# Altium integrated library Texas Instruments Power Management PWM Controller.IntLib: 1227 symbols (part 23 of 49)
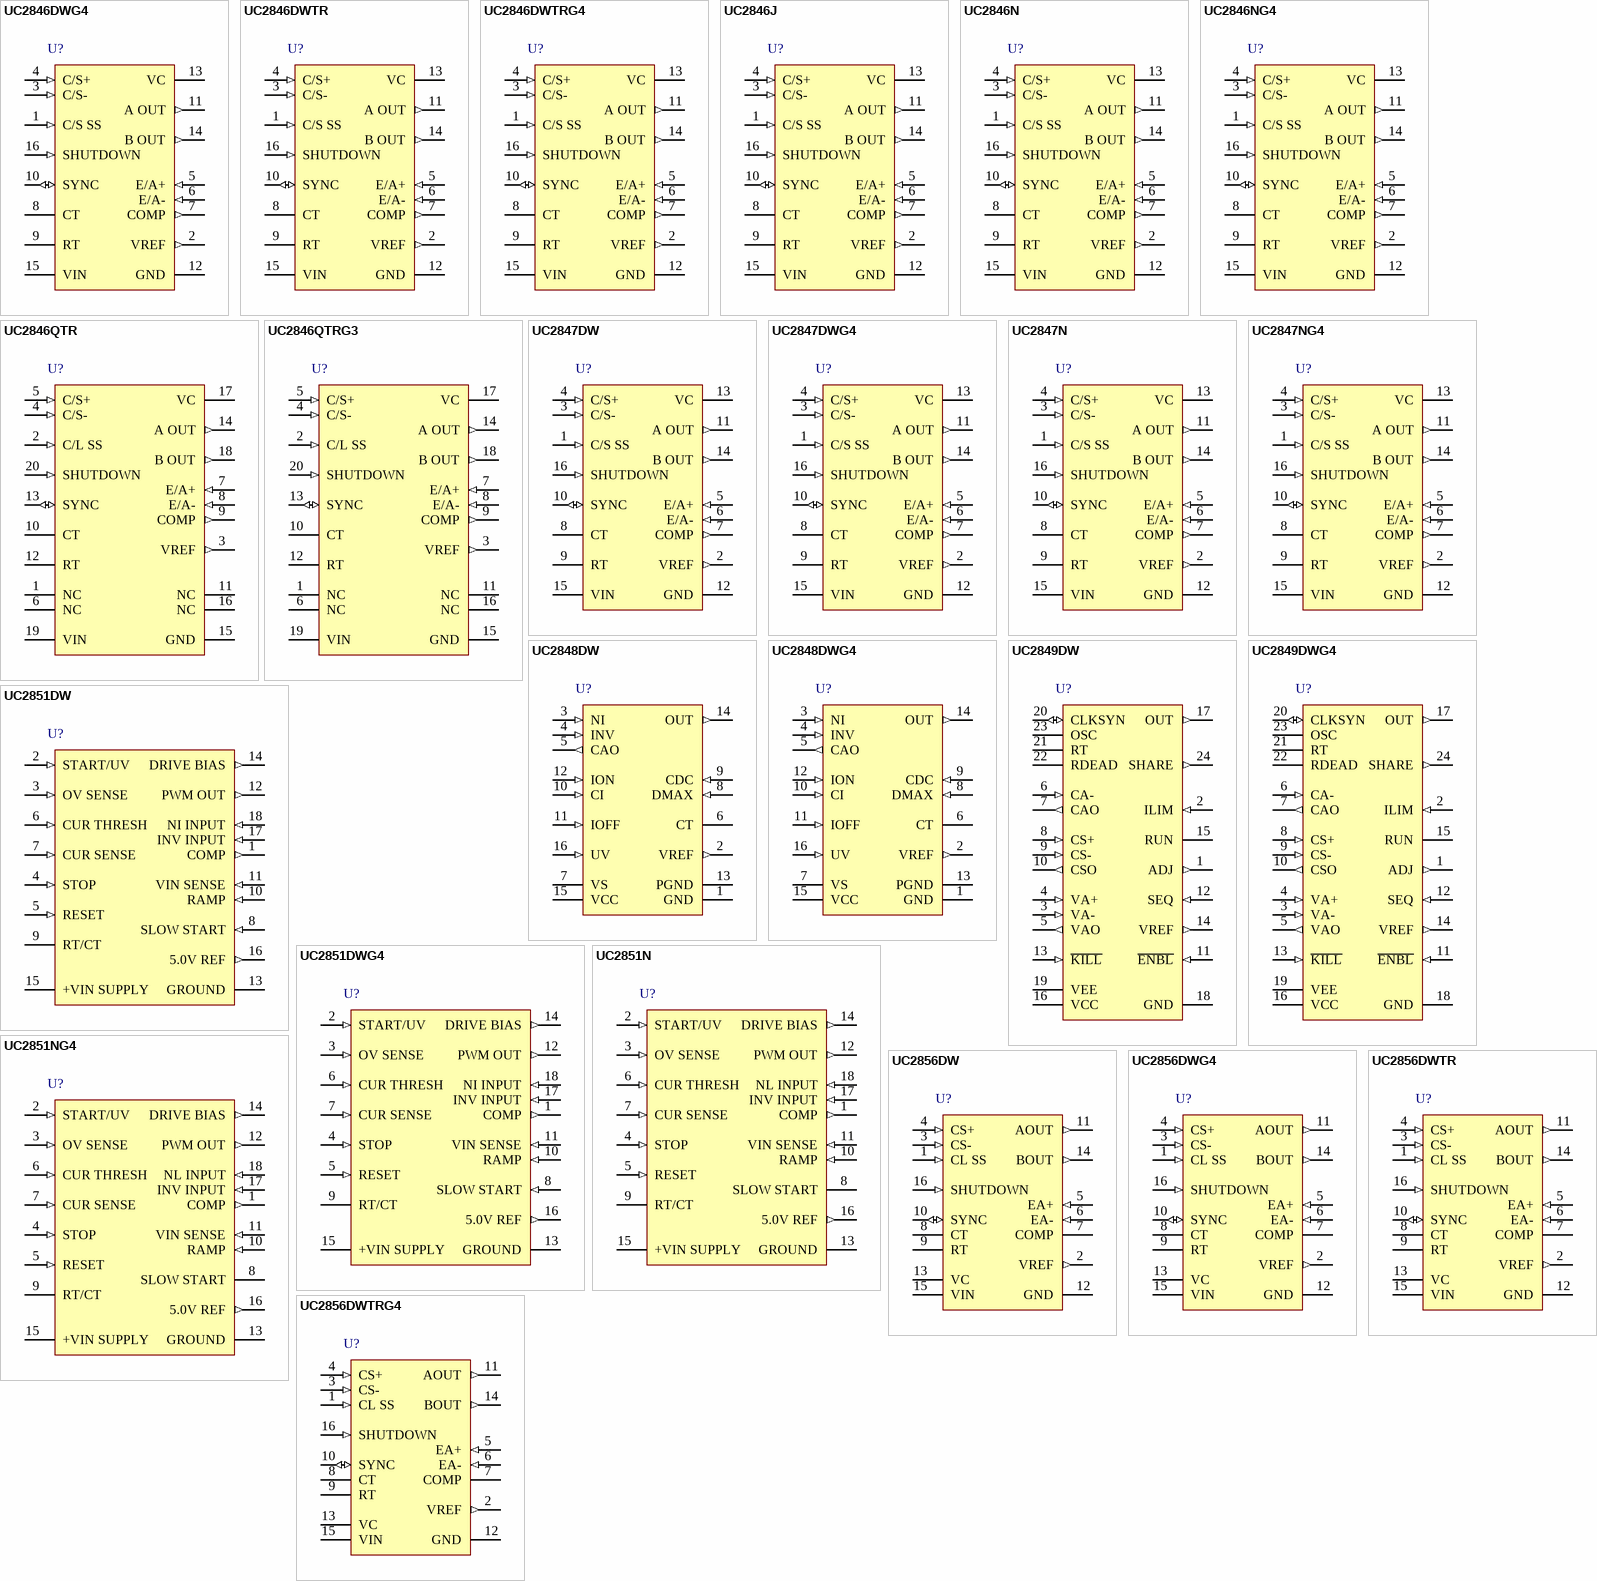
[diagram p65: symbols UC2846DWG4 to UC2856DWTRG4]

## UC2846DWTRG4
designator U?
PWM Controller with Current Control, 50 % Duty Cycle, -40 to +85 degC, 16-pin SOIC (DW), Green (RoHS & no Sb/Br); PartNumber: UC2846DWTRG4; Manufacturer: Texas Instruments; Duty Cycle(Max)(%): 50; Frequency(Max)(kHz): 450; Rating: Catalog; Regulated Outputs(#): 2; Topology: Boost, Flyback, Forward, Full-Bridge, Half-Bridge, Push-Pull; UVLO Thresholds On/Off(V): 7.7/6.95; DatasheetVersion: SLUS352B; PackageVersion: revG, Jan-2011; PackageReference: DW16; PackageDescription: 16-Pin Small Outline Integrated Circuit, 10.3 x 7.5 mm, Pitch 1.27 mm Pitch; Supplier 1: Digi-Key; Supplier Part Number 1: UC2846DWTRG4-ND; Supplier 2: Newark; Supplier Part Number 2: 85K1822; Supplier 3: Mouser; Supplier Part Number 3: 595-UC2846DWTRG4; Control Method: Current; Eco-Plan: Green (RoHS & no Sb/Br); SubFamily: PWM Controller; Mounting Technology: Surface Mount; Code_JEDEC: MS-013-AA; ComponentLink1Description: Datasheet; ComponentLink1URL: http://www.ti.com/general/docs/lit/getliterature.tsp?genericPartNumber=UC2846&fileType=pdf
footprint DW16_N (SOIC, 16-Leads, Body 10.3x7.5mm, Pitch 1.27mm, IPC Medium Density)
footprint DW16_L (SOIC, 16-Leads, Body 10.3x7.5mm, Pitch 1.27mm, IPC High Density)
footprint DW16_M (SOIC, 16-Leads, Body 10.3x7.5mm, Pitch 1.27mm, IPC Low Density)
pins: 1 C/S SS (in), 2 VREF (out), 3 C/S- (in), 4 C/S+ (in), 5 E/A+ (in), 6 E/A- (in), 7 COMP (out), 8 CT, 9 RT, 10 SYNC (io), 11 A OUT (out), 12 GND (power), 13 VC (power), 14 B OUT (out), 15 VIN (power), 16 SHUTDOWN (in)

## UC2846J
designator U?
PWM Controller with Current Control, 50 % Duty Cycle, -40 to +85 degC, 16-pin CDIP (J); PartNumber: UC2846J; Manufacturer: Texas Instruments; Duty Cycle(Max)(%): 50; Eco-Plan: TBD; Frequency(Max)(kHz): 450; Rating: Military; Regulated Outputs(#): 2; Topology: Boost, Flyback, Forward, Full-Bridge, Half-Bridge, Push-Pull; UVLO Thresholds On/Off(V): 7.7/6.95; DatasheetVersion: SLUS352B; PackageVersion: revF, Mar-2003; PackageReference: J16; PackageDescription: 16-Pin, Ceramic Dual In-Line Package, Row Spacing 7.62 mm, Pitch 2.54 mm; Control Method: Current; SubFamily: PWM Controller; Mounting Technology: Through Hole; ComponentLink1Description: Datasheet; ComponentLink1URL: http://www.ti.com/general/docs/lit/getliterature.tsp?genericPartNumber=UC2846M&fileType=pdf
footprint J16 (DIP, 16-Leads, Row Spacing 7.62mm, Pitch 2.54mm, Body 21.3x6.9mm)
pins: 1 C/S SS (in), 2 VREF (out), 3 C/S- (in), 4 C/S+ (in), 5 E/A+ (in), 6 E/A- (in), 7 COMP (out), 8 CT, 9 RT, 10 SYNC (io), 11 A OUT (out), 12 GND (power), 13 VC (power), 14 B OUT (out), 15 VIN (power), 16 SHUTDOWN (in)

## UC2846N
designator U?
PWM Controller with Current Control, 50 % Duty Cycle, -40 to +85 degC, 16-pin PDIP (N), Green (RoHS & no Sb/Br); PartNumber: UC2846N; Manufacturer: Texas Instruments; Duty Cycle(Max)(%): 50; Frequency(Max)(kHz): 450; Rating: Catalog; Regulated Outputs(#): 2; Topology: Boost, Flyback, Forward, Full-Bridge, Half-Bridge, Push-Pull; UVLO Thresholds On/Off(V): 7.7/6.95; DatasheetVersion: SLUS352B; PackageVersion: revE, Dec-2002; PackageReference: N16; PackageDescription: 16-Pin Plastic Dual-In-Line Package, Row Spacing 7.62 mm, Pitch 2.54 mm; Supplier 1: Digi-Key; Supplier Part Number 1: 296-11190-5-ND; Supplier 2: Farnell; Supplier Part Number 2: 1470535; Supplier 3: Newark; Supplier Part Number 3: 74K4003; Supplier 4: Mouser; Supplier Part Number 4: 595-UC2846N; Control Method: Current; Eco-Plan: Green (RoHS & no Sb/Br); SubFamily: PWM Controller; Mounting Technology: Through Hole; Code_JEDEC: MS-001*; ComponentLink1Description: Datasheet; ComponentLink1URL: http://www.ti.com/general/docs/lit/getliterature.tsp?genericPartNumber=UC2846&fileType=pdf
footprint N16 (DIP, 16-Leads, Row Spacing 7.62mm, Pitch 2.54mm, Body 19.3x6.4mm)
pins: 1 C/S SS (in), 2 VREF (out), 3 C/S- (in), 4 C/S+ (in), 5 E/A+ (in), 6 E/A- (in), 7 COMP (out), 8 CT, 9 RT, 10 SYNC (io), 11 A OUT (out), 12 GND (power), 13 VC (power), 14 B OUT (out), 15 VIN (power), 16 SHUTDOWN (in)

## UC2846NG4
designator U?
PWM Controller with Current Control, 50 % Duty Cycle, -40 to +85 degC, 16-pin PDIP (N), Green (RoHS & no Sb/Br); PartNumber: UC2846NG4; Manufacturer: Texas Instruments; Duty Cycle(Max)(%): 50; Frequency(Max)(kHz): 450; Rating: Catalog; Regulated Outputs(#): 2; Topology: Boost, Flyback, Forward, Full-Bridge, Half-Bridge, Push-Pull; UVLO Thresholds On/Off(V): 7.7/6.95; DatasheetVersion: SLUS352B; PackageVersion: revE, Dec-2002; PackageReference: N16; PackageDescription: 16-Pin Plastic Dual-In-Line Package, Row Spacing 7.62 mm, Pitch 2.54 mm; Supplier 1: Digi-Key; Supplier Part Number 1: UC2846NG4-ND; Supplier 2: Newark; Supplier Part Number 2: 66K4907; Supplier 3: Mouser; Supplier Part Number 3: 595-UC2846NG4; Control Method: Current; Eco-Plan: Green (RoHS & no Sb/Br); SubFamily: PWM Controller; Mounting Technology: Through Hole; Code_JEDEC: MS-001*; ComponentLink1Description: Datasheet; ComponentLink1URL: http://www.ti.com/general/docs/lit/getliterature.tsp?genericPartNumber=UC2846&fileType=pdf
footprint N16 (DIP, 16-Leads, Row Spacing 7.62mm, Pitch 2.54mm, Body 19.3x6.4mm)
pins: 1 C/S SS (in), 2 VREF (out), 3 C/S- (in), 4 C/S+ (in), 5 E/A+ (in), 6 E/A- (in), 7 COMP (out), 8 CT, 9 RT, 10 SYNC (io), 11 A OUT (out), 12 GND (power), 13 VC (power), 14 B OUT (out), 15 VIN (power), 16 SHUTDOWN (in)

## UC2846QTR
designator U?
PWM Controller with Current Control, 50 % Duty Cycle, -40 to +85 degC, 20-pin PLCC (FN), Green (RoHS & no Sb/Br); PartNumber: UC2846QTR; Manufacturer: Texas Instruments; Duty Cycle(Max)(%): 50; Frequency(Max)(kHz): 450; Rating: Catalog; Regulated Outputs(#): 2; Topology: Boost, Flyback, Forward, Full-Bridge, Half-Bridge, Push-Pull; UVLO Thresholds On/Off(V): 7.7/6.95; DatasheetVersion: SLUS352B; PackageVersion: revB, Mar-1995; PackageReference: FN20; PackageDescription: 20-Pin Plastic Leaded Chip Carrier, 1.27 mm Pitch; Supplier 1: Digi-Key; Supplier Part Number 1: UC2846QTR-ND; Supplier 2: Newark; Supplier Part Number 2: 77C2995; Supplier 3: Mouser; Supplier Part Number 3: 595-UC2846QTR; Control Method: Current; Eco-Plan: Green (RoHS & no Sb/Br); SubFamily: PWM Controller; Mounting Technology: Surface Mount; Code_JEDEC: MS-018; ComponentLink1Description: Datasheet; ComponentLink1URL: http://www.ti.com/general/docs/lit/getliterature.tsp?genericPartNumber=UC2846&fileType=pdf
footprint FN20_N (Leaded Chip Carrier, 20-Leads, Body 9x9mm, Pitch 1.27mm, IPC Medium Density)
footprint FN20_L (Leaded Chip Carrier, 20-Leads, Body 9x9mm, Pitch 1.27mm, IPC High Density)
footprint FN20_M (Leaded Chip Carrier, 20-Leads, Body 9x9mm, Pitch 1.27mm, IPC Low Density)
pins: 1 NC, 2 C/L SS (in), 3 VREF (out), 4 C/S- (in), 5 C/S+ (in), 6 NC, 7 E/A+ (in), 8 E/A- (in), 9 COMP (out), 10 CT, 11 NC, 12 RT, 13 SYNC (io), 14 A OUT (out), 15 GND (power), 16 NC, 17 VC (power), 18 B OUT (out), 19 VIN (power), 20 SHUTDOWN (in)

## UC2846QTRG3
designator U?
PWM Controller with Current Control, 50 % Duty Cycle, -40 to +85 degC, 20-pin PLCC (FN), Green (RoHS & no Sb/Br); PartNumber: UC2846QTRG3; Manufacturer: Texas Instruments; Duty Cycle(Max)(%): 50; Frequency(Max)(kHz): 450; Rating: Catalog; Regulated Outputs(#): 2; Topology: Boost, Flyback, Forward, Full-Bridge, Half-Bridge, Push-Pull; UVLO Thresholds On/Off(V): 7.7/6.95; DatasheetVersion: SLUS352B; PackageVersion: revB, Mar-1995; PackageReference: FN20; PackageDescription: 20-Pin Plastic Leaded Chip Carrier, 1.27 mm Pitch; Supplier 1: Digi-Key; Supplier Part Number 1: UC2846QTRG3-ND; Supplier 2: Newark; Supplier Part Number 2: 81K4516; Supplier 3: Mouser; Supplier Part Number 3: 595-UC2846QTRG3; Control Method: Current; Eco-Plan: Green (RoHS & no Sb/Br); SubFamily: PWM Controller; Mounting Technology: Surface Mount; Code_JEDEC: MS-018; ComponentLink1Description: Datasheet; ComponentLink1URL: http://www.ti.com/general/docs/lit/getliterature.tsp?genericPartNumber=UC2846&fileType=pdf
footprint FN20_N (Leaded Chip Carrier, 20-Leads, Body 9x9mm, Pitch 1.27mm, IPC Medium Density)
footprint FN20_L (Leaded Chip Carrier, 20-Leads, Body 9x9mm, Pitch 1.27mm, IPC High Density)
footprint FN20_M (Leaded Chip Carrier, 20-Leads, Body 9x9mm, Pitch 1.27mm, IPC Low Density)
pins: 1 NC, 2 C/L SS (in), 3 VREF (out), 4 C/S- (in), 5 C/S+ (in), 6 NC, 7 E/A+ (in), 8 E/A- (in), 9 COMP (out), 10 CT, 11 NC, 12 RT, 13 SYNC (io), 14 A OUT (out), 15 GND (power), 16 NC, 17 VC (power), 18 B OUT (out), 19 VIN (power), 20 SHUTDOWN (in)

## UC2847DW
designator U?
PWM Controller with Current Control, 50 % Duty Cycle, -40 to +85 degC, 16-pin SOIC (DW), Green (RoHS & no Sb/Br); PartNumber: UC2847DW; Manufacturer: Texas Instruments; Duty Cycle(Max)(%): 50; Frequency(Max)(kHz): 450; Rating: Catalog; Regulated Outputs(#): 2; Topology: Boost, Flyback, Forward, Full-Bridge, Half-Bridge, Push-Pull; UVLO Thresholds On/Off(V): 7.7/6.95; DatasheetVersion: SLUS352B; PackageVersion: revG, Jan-2011; PackageReference: DW16; PackageDescription: 16-Pin Small Outline Integrated Circuit, 10.3 x 7.5 mm, Pitch 1.27 mm Pitch; Supplier 1: Digi-Key; Supplier Part Number 1: UC2847DW-ND; Supplier 2: Newark; Supplier Part Number 2: 77C2996; Supplier 3: Mouser; Supplier Part Number 3: 595-UC2847DW; Control Method: Current; Eco-Plan: Green (RoHS & no Sb/Br); SubFamily: PWM Controller; Mounting Technology: Surface Mount; Code_JEDEC: MS-013-AA; ComponentLink1Description: Datasheet; ComponentLink1URL: http://www.ti.com/general/docs/lit/getliterature.tsp?genericPartNumber=UC2847&fileType=pdf
footprint DW16_N (SOIC, 16-Leads, Body 10.3x7.5mm, Pitch 1.27mm, IPC Medium Density)
footprint DW16_L (SOIC, 16-Leads, Body 10.3x7.5mm, Pitch 1.27mm, IPC High Density)
footprint DW16_M (SOIC, 16-Leads, Body 10.3x7.5mm, Pitch 1.27mm, IPC Low Density)
pins: 1 C/S SS (in), 2 VREF (out), 3 C/S- (in), 4 C/S+ (in), 5 E/A+ (in), 6 E/A- (in), 7 COMP (out), 8 CT, 9 RT, 10 SYNC (io), 11 A OUT (out), 12 GND (power), 13 VC (power), 14 B OUT (out), 15 VIN (power), 16 SHUTDOWN (in)

## UC2847DWG4
designator U?
PWM Controller with Current Control, 50 % Duty Cycle, -40 to +85 degC, 16-pin SOIC (DW), Green (RoHS & no Sb/Br); PartNumber: UC2847DWG4; Manufacturer: Texas Instruments; Duty Cycle(Max)(%): 50; Frequency(Max)(kHz): 450; Rating: Catalog; Regulated Outputs(#): 2; Topology: Boost, Flyback, Forward, Full-Bridge, Half-Bridge, Push-Pull; UVLO Thresholds On/Off(V): 7.7/6.95; DatasheetVersion: SLUS352B; PackageVersion: revG, Jan-2011; PackageReference: DW16; PackageDescription: 16-Pin Small Outline Integrated Circuit, 10.3 x 7.5 mm, Pitch 1.27 mm Pitch; Supplier 1: Digi-Key; Supplier Part Number 1: UC2847DWG4-ND; Supplier 2: Newark; Supplier Part Number 2: 66K4908; Supplier 3: Mouser; Supplier Part Number 3: 595-UC2847DWG4; Control Method: Current; Eco-Plan: Green (RoHS & no Sb/Br); SubFamily: PWM Controller; Mounting Technology: Surface Mount; Code_JEDEC: MS-013-AA; ComponentLink1Description: Datasheet; ComponentLink1URL: http://www.ti.com/general/docs/lit/getliterature.tsp?genericPartNumber=UC2847&fileType=pdf
footprint DW16_N (SOIC, 16-Leads, Body 10.3x7.5mm, Pitch 1.27mm, IPC Medium Density)
footprint DW16_L (SOIC, 16-Leads, Body 10.3x7.5mm, Pitch 1.27mm, IPC High Density)
footprint DW16_M (SOIC, 16-Leads, Body 10.3x7.5mm, Pitch 1.27mm, IPC Low Density)
pins: 1 C/S SS (in), 2 VREF (out), 3 C/S- (in), 4 C/S+ (in), 5 E/A+ (in), 6 E/A- (in), 7 COMP (out), 8 CT, 9 RT, 10 SYNC (io), 11 A OUT (out), 12 GND (power), 13 VC (power), 14 B OUT (out), 15 VIN (power), 16 SHUTDOWN (in)

## UC2847N
designator U?
PWM Controller with Current Control, 50 % Duty Cycle, -40 to +85 degC, 16-pin PDIP (N), Green (RoHS & no Sb/Br); PartNumber: UC2847N; Manufacturer: Texas Instruments; Duty Cycle(Max)(%): 50; Frequency(Max)(kHz): 450; Rating: Catalog; Regulated Outputs(#): 2; Topology: Boost, Flyback, Forward, Full-Bridge, Half-Bridge, Push-Pull; UVLO Thresholds On/Off(V): 7.7/6.95; DatasheetVersion: SLUS352B; PackageVersion: revE, Dec-2002; PackageReference: N16; PackageDescription: 16-Pin Plastic Dual-In-Line Package, Row Spacing 7.62 mm, Pitch 2.54 mm; Supplier 1: Digi-Key; Supplier Part Number 1: UC2847N-ND; Supplier 2: Newark; Supplier Part Number 2: 77C2998; Supplier 3: Mouser; Supplier Part Number 3: 595-UC2847N; Control Method: Current; Eco-Plan: Green (RoHS & no Sb/Br); SubFamily: PWM Controller; Mounting Technology: Through Hole; Code_JEDEC: MS-001*; ComponentLink1Description: Datasheet; ComponentLink1URL: http://www.ti.com/general/docs/lit/getliterature.tsp?genericPartNumber=UC2847&fileType=pdf
footprint N16 (DIP, 16-Leads, Row Spacing 7.62mm, Pitch 2.54mm, Body 19.3x6.4mm)
pins: 1 C/S SS (in), 2 VREF (out), 3 C/S- (in), 4 C/S+ (in), 5 E/A+ (in), 6 E/A- (in), 7 COMP (out), 8 CT, 9 RT, 10 SYNC (io), 11 A OUT (out), 12 GND (power), 13 VC (power), 14 B OUT (out), 15 VIN (power), 16 SHUTDOWN (in)

## UC2847NG4
designator U?
PWM Controller with Current Control, 50 % Duty Cycle, -40 to +85 degC, 16-pin PDIP (N), Green (RoHS & no Sb/Br); PartNumber: UC2847NG4; Manufacturer: Texas Instruments; Duty Cycle(Max)(%): 50; Frequency(Max)(kHz): 450; Rating: Catalog; Regulated Outputs(#): 2; Topology: Boost, Flyback, Forward, Full-Bridge, Half-Bridge, Push-Pull; UVLO Thresholds On/Off(V): 7.7/6.95; DatasheetVersion: SLUS352B; PackageVersion: revE, Dec-2002; PackageReference: N16; PackageDescription: 16-Pin Plastic Dual-In-Line Package, Row Spacing 7.62 mm, Pitch 2.54 mm; Supplier 1: Digi-Key; Supplier Part Number 1: UC2847NG4-ND; Supplier 2: Newark; Supplier Part Number 2: 80K3532; Supplier 3: Mouser; Supplier Part Number 3: 595-UC2847NG4; Control Method: Current; Eco-Plan: Green (RoHS & no Sb/Br); SubFamily: PWM Controller; Mounting Technology: Through Hole; Code_JEDEC: MS-001*; ComponentLink1Description: Datasheet; ComponentLink1URL: http://www.ti.com/general/docs/lit/getliterature.tsp?genericPartNumber=UC2847&fileType=pdf
footprint N16 (DIP, 16-Leads, Row Spacing 7.62mm, Pitch 2.54mm, Body 19.3x6.4mm)
pins: 1 C/S SS (in), 2 VREF (out), 3 C/S- (in), 4 C/S+ (in), 5 E/A+ (in), 6 E/A- (in), 7 COMP (out), 8 CT, 9 RT, 10 SYNC (io), 11 A OUT (out), 12 GND (power), 13 VC (power), 14 B OUT (out), 15 VIN (power), 16 SHUTDOWN (in)

## UC2848DW
designator U?
Average Current Mode PWM Controller, 100 % Duty Cycle, -40 to +85 degC, 16-pin SOIC (DW), Green (RoHS & no Sb/Br); PartNumber: UC2848DW; Manufacturer: Texas Instruments; Duty Cycle(Max)(%): 100; Frequency(Max)(kHz): 450; Rating: Military; Regulated Outputs(#): 1; Topology: Boost, Buck, Flyback, Forward; UVLO Thresholds On/Off(V): 13/10; DatasheetVersion: SLUS225A; PackageVersion: revG, Jan-2011; PackageReference: DW16; PackageDescription: 16-Pin Small Outline Integrated Circuit, 10.3 x 7.5 mm, Pitch 1.27 mm Pitch; Supplier 1: Digi-Key; Supplier Part Number 1: UC2848DW-ND; Supplier 2: Newark; Supplier Part Number 2: 77C2999; Supplier 3: Mouser; Supplier Part Number 3: 595-UC2848DW; Control Method: Current; Eco-Plan: Green (RoHS & no Sb/Br); SubFamily: PWM Controller; Mounting Technology: Surface Mount; Code_JEDEC: MS-013-AA; ComponentLink1Description: Datasheet; ComponentLink1URL: http://www.ti.com/general/docs/lit/getliterature.tsp?genericPartNumber=UC2848&fileType=pdf
footprint DW16_N (SOIC, 16-Leads, Body 10.3x7.5mm, Pitch 1.27mm, IPC Medium Density)
footprint DW16_L (SOIC, 16-Leads, Body 10.3x7.5mm, Pitch 1.27mm, IPC High Density)
footprint DW16_M (SOIC, 16-Leads, Body 10.3x7.5mm, Pitch 1.27mm, IPC Low Density)
pins: 1 GND (power), 2 VREF (out), 3 NI (in), 4 INV (in), 5 CAO (out), 6 CT, 7 VS (power), 8 DMAX (in), 9 CDC (in), 10 CI (in), 11 IOFF (in), 12 ION (in), 13 PGND (power), 14 OUT (out), 15 VCC (power), 16 UV (in)

## UC2848DWG4
designator U?
Average Current Mode PWM Controller, 100 % Duty Cycle, -40 to +85 degC, 16-pin SOIC (DW), Green (RoHS & no Sb/Br); PartNumber: UC2848DWG4; Manufacturer: Texas Instruments; Duty Cycle(Max)(%): 100; Frequency(Max)(kHz): 450; Rating: Military; Regulated Outputs(#): 1; Topology: Boost, Buck, Flyback, Forward; UVLO Thresholds On/Off(V): 13/10; DatasheetVersion: SLUS225A; PackageVersion: revG, Jan-2011; PackageReference: DW16; PackageDescription: 16-Pin Small Outline Integrated Circuit, 10.3 x 7.5 mm, Pitch 1.27 mm Pitch; Supplier 1: Digi-Key; Supplier Part Number 1: UC2848DWG4-ND; Supplier 2: Newark; Supplier Part Number 2: 63K6687; Supplier 3: Mouser; Supplier Part Number 3: 595-UC2848DWG4; Control Method: Current; Eco-Plan: Green (RoHS & no Sb/Br); SubFamily: PWM Controller; Mounting Technology: Surface Mount; Code_JEDEC: MS-013-AA; ComponentLink1Description: Datasheet; ComponentLink1URL: http://www.ti.com/general/docs/lit/getliterature.tsp?genericPartNumber=UC2848&fileType=pdf
footprint DW16_N (SOIC, 16-Leads, Body 10.3x7.5mm, Pitch 1.27mm, IPC Medium Density)
footprint DW16_L (SOIC, 16-Leads, Body 10.3x7.5mm, Pitch 1.27mm, IPC High Density)
footprint DW16_M (SOIC, 16-Leads, Body 10.3x7.5mm, Pitch 1.27mm, IPC Low Density)
pins: 1 GND (power), 2 VREF (out), 3 NI (in), 4 INV (in), 5 CAO (out), 6 CT, 7 VS (power), 8 DMAX (in), 9 CDC (in), 10 CI (in), 11 IOFF (in), 12 ION (in), 13 PGND (power), 14 OUT (out), 15 VCC (power), 16 UV (in)

## UC2849DW
designator U?
Secondary Side Average Current Mode Controller, 85 % Duty Cycle, -40 to +85 degC, 24-pin SOIC (DW), Green (RoHS & no Sb/Br); PartNumber: UC2849DW; Manufacturer: Texas Instruments; Duty Cycle(Max)(%): 85; Frequency(Max)(kHz): 1000; Rating: Catalog; Regulated Outputs(#): 1; SubFamily: PWM Controller; DatasheetVersion: SLUS360C; PackageVersion: revG, Jan-2011; PackageReference: DW24; PackageDescription: 24-Pin Plastic Small Outline Integrated Circuit, 15.4 x 7.5 mm, Pitch 1.27 mm Pitch; Supplier 1: Digi-Key; Supplier Part Number 1: 296-2494-5-ND; Supplier 2: Newark; Supplier Part Number 2: 77C3002; Supplier 3: Mouser; Supplier Part Number 3: 595-UC2849DW; Eco-Plan: Green (RoHS & no Sb/Br); Mounting Technology: Surface Mount; Code_JEDEC: MS-013AD; ComponentLink1Description: Datasheet; ComponentLink1URL: http://www.ti.com/general/docs/lit/getliterature.tsp?genericPartNumber=UC2849&fileType=pdf
footprint DW24_N (SOIC, 24-Leads, Body 15.4x7.5mm, Pitch 1.27mm, IPC Medium Density)
footprint DW24_L (SOIC, 24-Leads, Body 15.4x7.5mm, Pitch 1.27mm, IPC High Density)
footprint DW24_M (SOIC, 24-Leads, Body 15.4x7.5mm, Pitch 1.27mm, IPC Low Density)
pins: 1 ADJ (out) "The output of the transconductance (gm = -1 ms) amplifier adjusts the control voltage to maintain equal current sharing. The chip sensing the highest output current will have its output clamped to 1 V. A resistor divider (See Datasheet)", 2 ILIM (in) "A voltage on this pin programs the voltage error amplifier’s Voh clamp. The voltage error amplifier output represents the average output current. The Voh clamp consequently limits the output current. If ILIM is tied to VREF, (See Datasheet)", 3 VA- (in) "The inverting input to the voltage error amplifier.", 4 VA+ (in) "The non-inverting input to the voltage error amplifier.", 5 VAO (out) "The output of the voltage error amplifier. Its Voh is clamped with the ILIM pin.", 6 CA- (in) "The inverting input to the current error amplifier. This amplifier needs a capacitor between CA- and CAO to set its dominant pole.", 7 CAO (out) "The output of the current error amplifier which is internally clamped to 4 V. It is internally connected to the inverting input of the PWM comparator.", 8 CS+ (in) "The non-inverting input to the current sense amplifier. This amplifier is not internally compensated so the user must compensate externally to attain the highest GBW for the application.", 9 CS- (in) "The inverting input to the current sense amplifier. This amplifier is not internally compensated so the user must compensate externally to attain the highest GBW for the application.", 10 CSO (out) "The output of the current sense amplifier which is internally clamped to 4 V.", 11 ~{ENBL} (in) "The active low input with a 2.5-V threshold enables the output to switch. SEQ and RUN are driven low when E\N\B\L\ is above its 2.5-V threshold.", 12 SEQ (in) "The sequence pin allows the sequencing of startup for multiple units. A resistor between VREF and SEQ and a capacitor between SEQ and GND creates a unique RC rise time for each unit which sequences the output startup.", 13 ~{KILL} (in) "The active low input with a 3.0-V threshold stops the output from switching. Once this function is activated RUN must be cycled low by driving K\I\L\L\ above 3.0 V and either resetting the power to the chip (VCC) or (See Datasheet)", 14 VREF (out) "The reference voltage equal to 5.0 V.", 15 RUN (oc) "This is an open collector logic output that signifies when the chip is operational. RUN is pulled high to VREF through an external resistor when VCC is greater than 8.4 V, VREF is greater than 4.65 V, SEQ is greater than 2.5 (See Datasheet)", 16 VCC (power) "The input voltage of the chip. The chip is operational between 8.4 V and 20 V.", 17 OUT (out) "The output of the PWM driver. It has an upper clamp of 8.5 V. The peak current sink and source are 250 mA. All UVLO, SEQ, E\N\B\L\, and K\I\L\L\ logic either enable or disable the output driver.", 18 GND (power) "The signal ground used for the voltage sense amplifier, current sense amplifier, current error amplifier, voltage reference, 2X amplifier, and share amplifier. The output sink transistor is wired directly to this pin.", 19 VEE (power) "The negative supply to the chip which powers the lower voltage rail for all amplifiers. The chip is operational if VEE is connected to GND or if GND is floating. When voltage is applied externally to VEE, GND becomes a (See Datasheet)", 20 CLKSYN (io) "The clock and synchronization pin for the oscillator. This is a bidirectional pin that can be used to synchronize several chips to the fastest oscillator. Its input synchronization threshold is 1.4 V. The CLKSYN voltage is 3.(See Datasheet)", 21 RT "This pin programs the charge time of the oscillator ramp.", 22 RDEAD "The pin that programs the maximum duty cycle by connecting a resistor between it and OSC. The maximum duty cycle is decreased by increasing this resistor value which increases the discharge time. The dead time, the time when (See Datasheet)", 23 OSC "The oscillator ramp pin which has a capacitor (CT) to ground and a resistor (RDEAD) to the RDEAD pin programs its maximum duty cycle by programming a minimum dead time. The ramp oscillates between 1.2 V to 3.4 V when an (See Datasheet)", 24 SHARE (out) "The nearly dc voltage representing the average output current. This pin is wired directly to all SHARE pins and is the load share bus."

## UC2849DWG4
designator U?
Secondary Side Average Current Mode Controller, 85 % Duty Cycle, -40 to +85 degC, 24-pin SOIC (DW), Green (RoHS & no Sb/Br); PartNumber: UC2849DWG4; Manufacturer: Texas Instruments; Duty Cycle(Max)(%): 85; Frequency(Max)(kHz): 1000; Rating: Catalog; Regulated Outputs(#): 1; SubFamily: PWM Controller; DatasheetVersion: SLUS360C; PackageVersion: revG, Jan-2011; PackageReference: DW24; PackageDescription: 24-Pin Plastic Small Outline Integrated Circuit, 15.4 x 7.5 mm, Pitch 1.27 mm Pitch; Supplier 1: Digi-Key; Supplier Part Number 1: UC2849DWG4-ND; Supplier 2: Newark; Supplier Part Number 2: 58K7108; Supplier 3: Mouser; Supplier Part Number 3: 595-UC2849DWG4; Eco-Plan: Green (RoHS & no Sb/Br); Mounting Technology: Surface Mount; Code_JEDEC: MS-013AD; ComponentLink1Description: Datasheet; ComponentLink1URL: http://www.ti.com/general/docs/lit/getliterature.tsp?genericPartNumber=UC2849&fileType=pdf
footprint DW24_N (SOIC, 24-Leads, Body 15.4x7.5mm, Pitch 1.27mm, IPC Medium Density)
footprint DW24_L (SOIC, 24-Leads, Body 15.4x7.5mm, Pitch 1.27mm, IPC High Density)
footprint DW24_M (SOIC, 24-Leads, Body 15.4x7.5mm, Pitch 1.27mm, IPC Low Density)
pins: 1 ADJ (out) "The output of the transconductance (gm = -1 ms) amplifier adjusts the control voltage to maintain equal current sharing. The chip sensing the highest output current will have its output clamped to 1 V. A resistor divider (See Datasheet)", 2 ILIM (in) "A voltage on this pin programs the voltage error amplifier’s Voh clamp. The voltage error amplifier output represents the average output current. The Voh clamp consequently limits the output current. If ILIM is tied to VREF, (See Datasheet)", 3 VA- (in) "The inverting input to the voltage error amplifier.", 4 VA+ (in) "The non-inverting input to the voltage error amplifier.", 5 VAO (out) "The output of the voltage error amplifier. Its Voh is clamped with the ILIM pin.", 6 CA- (in) "The inverting input to the current error amplifier. This amplifier needs a capacitor between CA- and CAO to set its dominant pole.", 7 CAO (out) "The output of the current error amplifier which is internally clamped to 4 V. It is internally connected to the inverting input of the PWM comparator.", 8 CS+ (in) "The non-inverting input to the current sense amplifier. This amplifier is not internally compensated so the user must compensate externally to attain the highest GBW for the application.", 9 CS- (in) "The inverting input to the current sense amplifier. This amplifier is not internally compensated so the user must compensate externally to attain the highest GBW for the application.", 10 CSO (out) "The output of the current sense amplifier which is internally clamped to 4 V.", 11 ~{ENBL} (in) "The active low input with a 2.5-V threshold enables the output to switch. SEQ and RUN are driven low when E\N\B\L\ is above its 2.5-V threshold.", 12 SEQ (in) "The sequence pin allows the sequencing of startup for multiple units. A resistor between VREF and SEQ and a capacitor between SEQ and GND creates a unique RC rise time for each unit which sequences the output startup.", 13 ~{KILL} (in) "The active low input with a 3.0-V threshold stops the output from switching. Once this function is activated RUN must be cycled low by driving K\I\L\L\ above 3.0 V and either resetting the power to the chip (VCC) or (See Datasheet)", 14 VREF (out) "The reference voltage equal to 5.0 V.", 15 RUN (oc) "This is an open collector logic output that signifies when the chip is operational. RUN is pulled high to VREF through an external resistor when VCC is greater than 8.4 V, VREF is greater than 4.65 V, SEQ is greater than 2.5 (See Datasheet)", 16 VCC (power) "The input voltage of the chip. The chip is operational between 8.4 V and 20 V.", 17 OUT (out) "The output of the PWM driver. It has an upper clamp of 8.5 V. The peak current sink and source are 250 mA. All UVLO, SEQ, E\N\B\L\, and K\I\L\L\ logic either enable or disable the output driver.", 18 GND (power) "The signal ground used for the voltage sense amplifier, current sense amplifier, current error amplifier, voltage reference, 2X amplifier, and share amplifier. The output sink transistor is wired directly to this pin.", 19 VEE (power) "The negative supply to the chip which powers the lower voltage rail for all amplifiers. The chip is operational if VEE is connected to GND or if GND is floating. When voltage is applied externally to VEE, GND becomes a (See Datasheet)", 20 CLKSYN (io) "The clock and synchronization pin for the oscillator. This is a bidirectional pin that can be used to synchronize several chips to the fastest oscillator. Its input synchronization threshold is 1.4 V. The CLKSYN voltage is 3.(See Datasheet)", 21 RT "This pin programs the charge time of the oscillator ramp.", 22 RDEAD "The pin that programs the maximum duty cycle by connecting a resistor between it and OSC. The maximum duty cycle is decreased by increasing this resistor value which increases the discharge time. The dead time, the time when (See Datasheet)", 23 OSC "The oscillator ramp pin which has a capacitor (CT) to ground and a resistor (RDEAD) to the RDEAD pin programs its maximum duty cycle by programming a minimum dead time. The ramp oscillates between 1.2 V to 3.4 V when an (See Datasheet)", 24 SHARE (out) "The nearly dc voltage representing the average output current. This pin is wired directly to all SHARE pins and is the load share bus."

## UC2851DW
designator U?
Programmable, Off-Line, PWM Controller with Current Control, 50 % Duty Cycle, -40 to +85 degC, 18-pin SOIC (DW), Green (RoHS & no Sb/Br); PartNumber: UC2851DW; Manufacturer: Texas Instruments; Duty Cycle(Max)(%): 50; Frequency(Max)(kHz): 450; Rating: Catalog; Regulated Outputs(#): 1; Topology: Boost, Buck, Flyback, Forward; DatasheetVersion: SLUS226; PackageVersion: revG, Jan-2011; PackageReference: DW18; PackageDescription: 18-Pin Plastic Small Outline Integrated Circuit, 11.6 x 7.5 mm, Pitch 1.27 mm Pitch; Supplier 1: Digi-Key; Supplier Part Number 1: UC2851DW-ND; Supplier 2: Newark; Supplier Part Number 2: 77C3008; Supplier 3: Mouser; Supplier Part Number 3: 595-UC2851DW; Control Method: Current; Eco-Plan: Green (RoHS & no Sb/Br); SubFamily: PWM Controller; UVLO Thresholds On/Off(V): 8/7.8; Mounting Technology: Surface Mount; Code_JEDEC: MS-013-AB; ComponentLink1Description: Datasheet; ComponentLink1URL: http://www.ti.com/general/docs/lit/getliterature.tsp?genericPartNumber=UC2851&fileType=pdf
footprint DW18_N (SOIC, 18-Leads, Body 11.6x7.5mm, Pitch 1.27mm, IPC Medium Density)
footprint DW18_L (SOIC, 18-Leads, Body 11.6x7.5mm, Pitch 1.27mm, IPC High Density)
footprint DW18_M (SOIC, 18-Leads, Body 11.6x7.5mm, Pitch 1.27mm, IPC Low Density)
pins: 1 COMP (out), 2 START/UV (in), 3 OV SENSE (in), 4 STOP (in), 5 RESET (in), 6 CUR THRESH (in), 7 CUR SENSE (in), 8 SLOW START (in), 9 RT/CT, 10 RAMP (in), 11 VIN SENSE (in), 12 PWM OUT (out), 13 GROUND (power), 14 DRIVE BIAS (out), 15 +VIN SUPPLY (power), 16 5.0V REF (out), 17 INV INPUT (in), 18 NI INPUT (in)

## UC2851DWG4
designator U?
Programmable, Off-Line, PWM Controller with Current Control, 50 % Duty Cycle, -40 to +85 degC, 18-pin SOIC (DW), Green (RoHS & no Sb/Br); PartNumber: UC2851DWG4; Manufacturer: Texas Instruments; Duty Cycle(Max)(%): 50; Frequency(Max)(kHz): 450; Rating: Catalog; Regulated Outputs(#): 1; Topology: Boost, Buck, Flyback, Forward; DatasheetVersion: SLUS226; PackageVersion: revG, Jan-2011; PackageReference: DW18; PackageDescription: 18-Pin Plastic Small Outline Integrated Circuit, 11.6 x 7.5 mm, Pitch 1.27 mm Pitch; Supplier 1: Digi-Key; Supplier Part Number 1: UC2851DWG4-ND; Supplier 2: Newark; Supplier Part Number 2: 61K1994; Supplier 3: Mouser; Supplier Part Number 3: 595-UC2851DWG4; Control Method: Current; Eco-Plan: Green (RoHS & no Sb/Br); SubFamily: PWM Controller; UVLO Thresholds On/Off(V): 8/7.8; Mounting Technology: Surface Mount; Code_JEDEC: MS-013-AB; ComponentLink1Description: Datasheet; ComponentLink1URL: http://www.ti.com/general/docs/lit/getliterature.tsp?genericPartNumber=UC2851&fileType=pdf
footprint DW18_N (SOIC, 18-Leads, Body 11.6x7.5mm, Pitch 1.27mm, IPC Medium Density)
footprint DW18_L (SOIC, 18-Leads, Body 11.6x7.5mm, Pitch 1.27mm, IPC High Density)
footprint DW18_M (SOIC, 18-Leads, Body 11.6x7.5mm, Pitch 1.27mm, IPC Low Density)
pins: 1 COMP (out), 2 START/UV (in), 3 OV SENSE (in), 4 STOP (in), 5 RESET (in), 6 CUR THRESH (in), 7 CUR SENSE (in), 8 SLOW START (in), 9 RT/CT, 10 RAMP (in), 11 VIN SENSE (in), 12 PWM OUT (out), 13 GROUND (power), 14 DRIVE BIAS (out), 15 +VIN SUPPLY (power), 16 5.0V REF (out), 17 INV INPUT (in), 18 NI INPUT (in)

## UC2851N
designator U?
Programmable, Off-Line, PWM Controller with Current Control, 50 % Duty Cycle, -40 to +85 degC, 18-pin PDIP (N), Green (RoHS & no Sb/Br); PartNumber: UC2851N; Manufacturer: Texas Instruments; Duty Cycle(Max)(%): 50; Frequency(Max)(kHz): 450; Rating: Catalog; Regulated Outputs(#): 1; Topology: Boost, Buck, Flyback, Forward; DatasheetVersion: SLUS226; PackageVersion: revE, Dec-2002; PackageReference: N18; PackageDescription: 18-Pin Plastic Dual-In-Line Package, Row Spacing 7.62 mm, Pitch 2.54 mm; Supplier 1: Digi-Key; Supplier Part Number 1: 296-11192-5-ND; Supplier 2: Newark; Supplier Part Number 2: 77C3010; Supplier 3: Mouser; Supplier Part Number 3: 595-UC2851N; Control Method: Current; Eco-Plan: Green (RoHS & no Sb/Br); SubFamily: PWM Controller; UVLO Thresholds On/Off(V): 8/7.8; Mounting Technology: Through Hole; Code_JEDEC: MS-001-AC*; ComponentLink1Description: Datasheet; ComponentLink1URL: http://www.ti.com/general/docs/lit/getliterature.tsp?genericPartNumber=UC2851&fileType=pdf
footprint N18 (DIP, 18-Leads, Row Spacing 7.62mm, Pitch 2.54mm, Body 22.5x6.4mm)
pins: 1 COMP (out), 2 START/UV (in), 3 OV SENSE (in), 4 STOP (in), 5 RESET (in), 6 CUR THRESH (in), 7 CUR SENSE (in), 8 SLOW START, 9 RT/CT, 10 RAMP (in), 11 VIN SENSE (in), 12 PWM OUT (out), 13 GROUND (power), 14 DRIVE BIAS (out), 15 +VIN SUPPLY (power), 16 5.0V REF (out), 17 INV INPUT (in), 18 NL INPUT (in)

## UC2851NG4
designator U?
Programmable, Off-Line, PWM Controller with Current Control, 50 % Duty Cycle, -40 to +85 degC, 18-pin PDIP (N), Green (RoHS & no Sb/Br); PartNumber: UC2851NG4; Manufacturer: Texas Instruments; Duty Cycle(Max)(%): 50; Frequency(Max)(kHz): 450; Rating: Catalog; Regulated Outputs(#): 1; Topology: Boost, Buck, Flyback, Forward; DatasheetVersion: SLUS226; PackageVersion: revE, Dec-2002; PackageReference: N18; PackageDescription: 18-Pin Plastic Dual-In-Line Package, Row Spacing 7.62 mm, Pitch 2.54 mm; Supplier 1: Digi-Key; Supplier Part Number 1: UC2851NG4-ND; Supplier 2: Newark; Supplier Part Number 2: 70K5980; Supplier 3: Mouser; Supplier Part Number 3: 595-UC2851NG4; Control Method: Current; Eco-Plan: Green (RoHS & no Sb/Br); SubFamily: PWM Controller; UVLO Thresholds On/Off(V): 8/7.8; Mounting Technology: Through Hole; Code_JEDEC: MS-001-AC*; ComponentLink1Description: Datasheet; ComponentLink1URL: http://www.ti.com/general/docs/lit/getliterature.tsp?genericPartNumber=UC2851&fileType=pdf
footprint N18 (DIP, 18-Leads, Row Spacing 7.62mm, Pitch 2.54mm, Body 22.5x6.4mm)
pins: 1 COMP (out), 2 START/UV (in), 3 OV SENSE (in), 4 STOP (in), 5 RESET (in), 6 CUR THRESH (in), 7 CUR SENSE (in), 8 SLOW START, 9 RT/CT, 10 RAMP (in), 11 VIN SENSE (in), 12 PWM OUT (out), 13 GROUND (power), 14 DRIVE BIAS (out), 15 +VIN SUPPLY (power), 16 5.0V REF (out), 17 INV INPUT (in), 18 NL INPUT (in)

## UC2856DW
designator U?
Improved PWM Controller with Current Control, 50 % Duty Cycle, -40 to +85 degC, 16-pin SOIC (DW), Green (RoHS & no Sb/Br); PartNumber: UC2856DW; Manufacturer: Texas Instruments; Duty Cycle(Max)(%): 50; Frequency(Max)(kHz): 1000; Rating: Catalog; Regulated Outputs(#): 2; Topology: Boost, Flyback, Forward, Full-Bridge, Half-Bridge, Push-Pull; DatasheetVersion: SLUS227A; PackageVersion: revG, Jan-2011; PackageReference: DW16; PackageDescription: 16-Pin Small Outline Integrated Circuit, 10.3 x 7.5 mm, Pitch 1.27 mm Pitch; Supplier 1: Digi-Key; Supplier Part Number 1: 296-11197-5-ND; Supplier 2: Newark; Supplier Part Number 2: 77C3035; Supplier 3: Mouser; Supplier Part Number 3: 595-UC2856DW; Control Method: Current; Eco-Plan: Green (RoHS & no Sb/Br); SubFamily: PWM Controller; UVLO Thresholds On/Off(V): 7.7/7; Mounting Technology: Surface Mount; Code_JEDEC: MS-013-AA; ComponentLink1Description: Datasheet; ComponentLink1URL: http://www.ti.com/general/docs/lit/getliterature.tsp?genericPartNumber=UC2856&fileType=pdf
footprint DW16_N (SOIC, 16-Leads, Body 10.3x7.5mm, Pitch 1.27mm, IPC Medium Density)
footprint DW16_L (SOIC, 16-Leads, Body 10.3x7.5mm, Pitch 1.27mm, IPC High Density)
footprint DW16_M (SOIC, 16-Leads, Body 10.3x7.5mm, Pitch 1.27mm, IPC Low Density)
pins: 1 CL SS (in), 2 VREF (out), 3 CS- (in), 4 CS+ (in), 5 EA+ (in), 6 EA- (in), 7 COMP, 8 CT, 9 RT, 10 SYNC (io), 11 AOUT (out), 12 GND (power), 13 VC (power), 14 BOUT (out), 15 VIN (power), 16 SHUTDOWN (in)

## UC2856DWG4
designator U?
Improved PWM Controller with Current Control, 50 % Duty Cycle, -40 to +85 degC, 16-pin SOIC (DW), Green (RoHS & no Sb/Br); PartNumber: UC2856DWG4; Manufacturer: Texas Instruments; Duty Cycle(Max)(%): 50; Frequency(Max)(kHz): 1000; Rating: Catalog; Regulated Outputs(#): 2; Topology: Boost, Flyback, Forward, Full-Bridge, Half-Bridge, Push-Pull; DatasheetVersion: SLUS227A; PackageVersion: revG, Jan-2011; PackageReference: DW16; PackageDescription: 16-Pin Small Outline Integrated Circuit, 10.3 x 7.5 mm, Pitch 1.27 mm Pitch; Supplier 1: Digi-Key; Supplier Part Number 1: UC2856DWG4-ND; Supplier 2: Newark; Supplier Part Number 2: 63K6693; Supplier 3: Mouser; Supplier Part Number 3: 595-UC2856DWG4; Control Method: Current; Eco-Plan: Green (RoHS & no Sb/Br); SubFamily: PWM Controller; UVLO Thresholds On/Off(V): 7.7/7; Mounting Technology: Surface Mount; Code_JEDEC: MS-013-AA; ComponentLink1Description: Datasheet; ComponentLink1URL: http://www.ti.com/general/docs/lit/getliterature.tsp?genericPartNumber=UC2856&fileType=pdf
footprint DW16_N (SOIC, 16-Leads, Body 10.3x7.5mm, Pitch 1.27mm, IPC Medium Density)
footprint DW16_L (SOIC, 16-Leads, Body 10.3x7.5mm, Pitch 1.27mm, IPC High Density)
footprint DW16_M (SOIC, 16-Leads, Body 10.3x7.5mm, Pitch 1.27mm, IPC Low Density)
pins: 1 CL SS (in), 2 VREF (out), 3 CS- (in), 4 CS+ (in), 5 EA+ (in), 6 EA- (in), 7 COMP, 8 CT, 9 RT, 10 SYNC (io), 11 AOUT (out), 12 GND (power), 13 VC (power), 14 BOUT (out), 15 VIN (power), 16 SHUTDOWN (in)

## UC2856DWTR
designator U?
Improved PWM Controller with Current Control, 50 % Duty Cycle, -40 to +85 degC, 16-pin SOIC (DW), Green (RoHS & no Sb/Br); PartNumber: UC2856DWTR; Manufacturer: Texas Instruments; Duty Cycle(Max)(%): 50; Frequency(Max)(kHz): 1000; Rating: Catalog; Regulated Outputs(#): 2; Topology: Boost, Flyback, Forward, Full-Bridge, Half-Bridge, Push-Pull; DatasheetVersion: SLUS227A; PackageVersion: revG, Jan-2011; PackageReference: DW16; PackageDescription: 16-Pin Small Outline Integrated Circuit, 10.3 x 7.5 mm, Pitch 1.27 mm Pitch; Supplier 1: Digi-Key; Supplier Part Number 1: UC2856DWTR-ND; Supplier 2: Newark; Supplier Part Number 2: 77C3036; Supplier 3: Mouser; Supplier Part Number 3: 595-UC2856DWTR; Control Method: Current; Eco-Plan: Green (RoHS & no Sb/Br); SubFamily: PWM Controller; UVLO Thresholds On/Off(V): 7.7/7; Mounting Technology: Surface Mount; Code_JEDEC: MS-013-AA; ComponentLink1Description: Datasheet; ComponentLink1URL: http://www.ti.com/general/docs/lit/getliterature.tsp?genericPartNumber=UC2856&fileType=pdf
footprint DW16_N (SOIC, 16-Leads, Body 10.3x7.5mm, Pitch 1.27mm, IPC Medium Density)
footprint DW16_L (SOIC, 16-Leads, Body 10.3x7.5mm, Pitch 1.27mm, IPC High Density)
footprint DW16_M (SOIC, 16-Leads, Body 10.3x7.5mm, Pitch 1.27mm, IPC Low Density)
pins: 1 CL SS (in), 2 VREF (out), 3 CS- (in), 4 CS+ (in), 5 EA+ (in), 6 EA- (in), 7 COMP, 8 CT, 9 RT, 10 SYNC (io), 11 AOUT (out), 12 GND (power), 13 VC (power), 14 BOUT (out), 15 VIN (power), 16 SHUTDOWN (in)

## UC2856DWTRG4
designator U?
Improved PWM Controller with Current Control, 50 % Duty Cycle, -40 to +85 degC, 16-pin SOIC (DW), Green (RoHS & no Sb/Br); PartNumber: UC2856DWTRG4; Manufacturer: Texas Instruments; Duty Cycle(Max)(%): 50; Frequency(Max)(kHz): 1000; Rating: Catalog; Regulated Outputs(#): 2; Topology: Boost, Flyback, Forward, Full-Bridge, Half-Bridge, Push-Pull; DatasheetVersion: SLUS227A; PackageVersion: revG, Jan-2011; PackageReference: DW16; PackageDescription: 16-Pin Small Outline Integrated Circuit, 10.3 x 7.5 mm, Pitch 1.27 mm Pitch; Supplier 1: Digi-Key; Supplier Part Number 1: UC2856DWTRG4-ND; Supplier 2: Newark; Supplier Part Number 2: 63K6694; Supplier 3: Mouser; Supplier Part Number 3: 595-UC2856DWTRG4; Control Method: Current; Eco-Plan: Green (RoHS & no Sb/Br); SubFamily: PWM Controller; UVLO Thresholds On/Off(V): 7.7/7; Mounting Technology: Surface Mount; Code_JEDEC: MS-013-AA; ComponentLink1Description: Datasheet; ComponentLink1URL: http://www.ti.com/general/docs/lit/getliterature.tsp?genericPartNumber=UC2856&fileType=pdf
footprint DW16_N (SOIC, 16-Leads, Body 10.3x7.5mm, Pitch 1.27mm, IPC Medium Density)
footprint DW16_L (SOIC, 16-Leads, Body 10.3x7.5mm, Pitch 1.27mm, IPC High Density)
footprint DW16_M (SOIC, 16-Leads, Body 10.3x7.5mm, Pitch 1.27mm, IPC Low Density)
pins: 1 CL SS (in), 2 VREF (out), 3 CS- (in), 4 CS+ (in), 5 EA+ (in), 6 EA- (in), 7 COMP, 8 CT, 9 RT, 10 SYNC (io), 11 AOUT (out), 12 GND (power), 13 VC (power), 14 BOUT (out), 15 VIN (power), 16 SHUTDOWN (in)

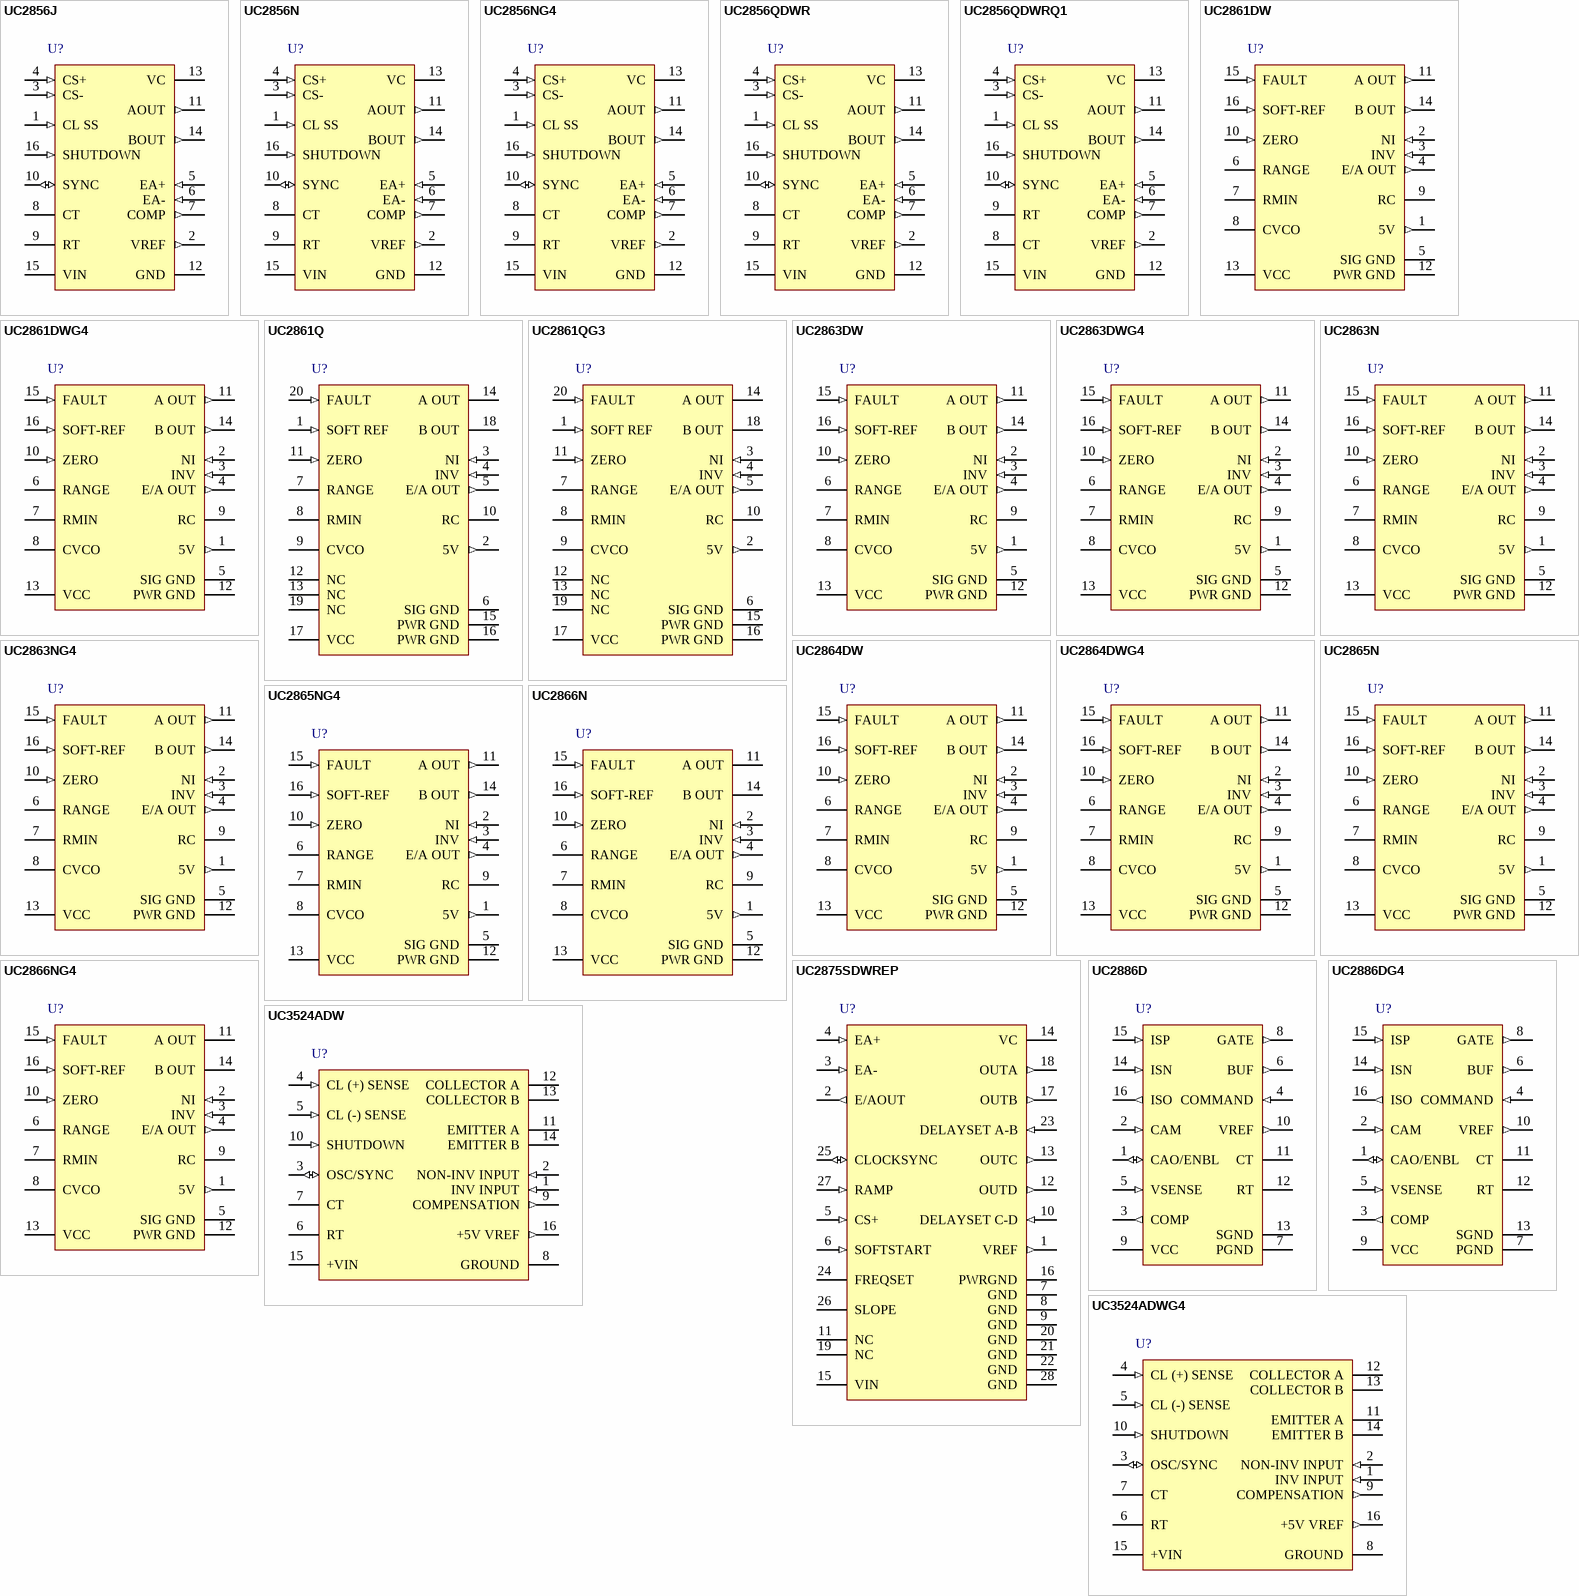
[diagram p25: symbols UC2856J to UC3524ADWG4]

## UC2856J
designator U?
Improved PWM Controller with Current Control, 50 % Duty Cycle, -40 to +85 degC, 16-pin CDIP (J); PartNumber: UC2856J; Manufacturer: Texas Instruments; Duty Cycle(Max)(%): 50; Eco-Plan: TBD; Frequency(Max)(kHz): 1000; Rating: Military; Regulated Outputs(#): 2; Topology: Boost, Flyback, Forward, Full-Bridge, Half-Bridge, Push-Pull; DatasheetVersion: SLUS227A; PackageVersion: revF, Mar-2003; PackageReference: J16; PackageDescription: 16-Pin, Ceramic Dual In-Line Package, Row Spacing 7.62 mm, Pitch 2.54 mm; Control Method: Current; SubFamily: PWM Controller; UVLO Thresholds On/Off(V): 7.7/7; Mounting Technology: Through Hole; ComponentLink1Description: Datasheet; ComponentLink1URL: http://www.ti.com/general/docs/lit/getliterature.tsp?genericPartNumber=UC2856M&fileType=pdf
footprint J16 (DIP, 16-Leads, Row Spacing 7.62mm, Pitch 2.54mm, Body 21.3x6.9mm)
pins: 1 CL SS (in), 2 VREF (out), 3 CS- (in), 4 CS+ (in), 5 EA+ (in), 6 EA- (in), 7 COMP (out), 8 CT, 9 RT, 10 SYNC (io), 11 AOUT (out), 12 GND (power), 13 VC (power), 14 BOUT (out), 15 VIN (power), 16 SHUTDOWN (in)

## UC2856N
designator U?
Improved PWM Controller with Current Control, 50 % Duty Cycle, -40 to +85 degC, 16-pin PDIP (N), Green (RoHS & no Sb/Br); PartNumber: UC2856N; Manufacturer: Texas Instruments; Duty Cycle(Max)(%): 50; Frequency(Max)(kHz): 1000; Rating: Catalog; Regulated Outputs(#): 2; Topology: Boost, Flyback, Forward, Full-Bridge, Half-Bridge, Push-Pull; DatasheetVersion: SLUS227A; PackageVersion: revE, Dec-2002; PackageReference: N16; PackageDescription: 16-Pin Plastic Dual-In-Line Package, Row Spacing 7.62 mm, Pitch 2.54 mm; Supplier 1: Digi-Key; Supplier Part Number 1: 296-11198-5-ND; Supplier 2: Newark; Supplier Part Number 2: 77C3037; Supplier 3: Mouser; Supplier Part Number 3: 595-UC2856N; Control Method: Current; Eco-Plan: Green (RoHS & no Sb/Br); SubFamily: PWM Controller; UVLO Thresholds On/Off(V): 7.7/7; Mounting Technology: Through Hole; Code_JEDEC: MS-001*; ComponentLink1Description: Datasheet; ComponentLink1URL: http://www.ti.com/general/docs/lit/getliterature.tsp?genericPartNumber=UC2856&fileType=pdf
footprint N16 (DIP, 16-Leads, Row Spacing 7.62mm, Pitch 2.54mm, Body 19.3x6.4mm)
pins: 1 CL SS (in), 2 VREF (out), 3 CS- (in), 4 CS+ (in), 5 EA+ (in), 6 EA- (in), 7 COMP (out), 8 CT, 9 RT, 10 SYNC (io), 11 AOUT (out), 12 GND (power), 13 VC (power), 14 BOUT (out), 15 VIN (power), 16 SHUTDOWN (in)

## UC2856NG4
designator U?
Improved PWM Controller with Current Control, 50 % Duty Cycle, -40 to +85 degC, 16-pin PDIP (N), Green (RoHS & no Sb/Br); PartNumber: UC2856NG4; Manufacturer: Texas Instruments; Duty Cycle(Max)(%): 50; Frequency(Max)(kHz): 1000; Rating: Catalog; Regulated Outputs(#): 2; Topology: Boost, Flyback, Forward, Full-Bridge, Half-Bridge, Push-Pull; DatasheetVersion: SLUS227A; PackageVersion: revE, Dec-2002; PackageReference: N16; PackageDescription: 16-Pin Plastic Dual-In-Line Package, Row Spacing 7.62 mm, Pitch 2.54 mm; Supplier 1: Digi-Key; Supplier Part Number 1: UC2856NG4-ND; Supplier 2: Newark; Supplier Part Number 2: 34M0263; Supplier 3: Mouser; Supplier Part Number 3: 595-UC2856NG4; Control Method: Current; Eco-Plan: Green (RoHS & no Sb/Br); SubFamily: PWM Controller; UVLO Thresholds On/Off(V): 7.7/7; Mounting Technology: Through Hole; Code_JEDEC: MS-001*; ComponentLink1Description: Datasheet; ComponentLink1URL: http://www.ti.com/general/docs/lit/getliterature.tsp?genericPartNumber=UC2856&fileType=pdf
footprint N16 (DIP, 16-Leads, Row Spacing 7.62mm, Pitch 2.54mm, Body 19.3x6.4mm)
pins: 1 CL SS (in), 2 VREF (out), 3 CS- (in), 4 CS+ (in), 5 EA+ (in), 6 EA- (in), 7 COMP (out), 8 CT, 9 RT, 10 SYNC (io), 11 AOUT (out), 12 GND (power), 13 VC (power), 14 BOUT (out), 15 VIN (power), 16 SHUTDOWN (in)

## UC2856QDWR
designator U?
Improved Current Mode PWM Controller with Current Control, 50 % Duty Cycle, -40 to +125 degC, 16-pin SOIC (DW), Green (RoHS & no Sb/Br); PartNumber: UC2856QDWR; Manufacturer: Texas Instruments; Duty Cycle(Max)(%): 50; Frequency(Max)(kHz): 1000; Rating: Automotive; Regulated Outputs(#): 2; Topology: Boost, Flyback, Forward, Full-Bridge, Half-Bridge, Push-Pull; UVLO Thresholds On/Off(V): 7.7; DatasheetVersion: SGLS265A; PackageVersion: revG, Jan-2011; PackageReference: DW16; PackageDescription: 16-Pin Small Outline Integrated Circuit, 10.3 x 7.5 mm, Pitch 1.27 mm Pitch; Supplier 1: Digi-Key; Supplier Part Number 1: 296-19902-2-ND; Supplier 2: Digi-Key; Supplier Part Number 2: 296-19902-1-ND; Supplier 3: Digi-Key; Supplier Part Number 3: 296-19902-6-ND; Supplier 4: Newark; Supplier Part Number 4: 65J6989; Supplier 5: Mouser; Supplier Part Number 5: 595-UC2856QDWR; Control Method: Current; Eco-Plan: Green (RoHS & no Sb/Br); SubFamily: PWM Controller; Mounting Technology: Surface Mount; Code_JEDEC: MS-013-AA; ComponentLink1Description: Datasheet; ComponentLink1URL: http://www.ti.com/general/docs/lit/getliterature.tsp?genericPartNumber=UC2856Q&fileType=pdf
footprint DW16_N (SOIC, 16-Leads, Body 10.3x7.5mm, Pitch 1.27mm, IPC Medium Density)
footprint DW16_L (SOIC, 16-Leads, Body 10.3x7.5mm, Pitch 1.27mm, IPC High Density)
footprint DW16_M (SOIC, 16-Leads, Body 10.3x7.5mm, Pitch 1.27mm, IPC Low Density)
pins: 1 CL SS (in), 2 VREF (out), 3 CS- (in), 4 CS+ (in), 5 EA+ (in), 6 EA- (in), 7 COMP (out), 8 CT, 9 RT, 10 SYNC (io), 11 AOUT (out), 12 GND (power), 13 VC (power), 14 BOUT (out), 15 VIN (power), 16 SHUTDOWN (in)

## UC2856QDWRQ1
designator U?
Improved PWM Controller with Current Control, 50 % Duty Cycle, -40 to +125 degC, 16-pin D SOIC (DW), Green (RoHS & no Sb/Br); PartNumber: UC2856QDWRQ1; Manufacturer: Texas Instruments; Duty Cycle(Max)(%): 50; Frequency(Max)(kHz): 1000; Rating: Automotive; Regulated Outputs(#): 2; Topology: Boost, Flyback, Forward, Full-Bridge, Half-Bridge, Push-Pull; DatasheetVersion: SLVS863B; PackageVersion: revG, Jan-2011; PackageReference: DW16; PackageDescription: 16-Pin Small Outline Integrated Circuit, 10.3 x 7.5 mm, Pitch 1.27 mm Pitch; Supplier 1: Digi-Key; Supplier Part Number 1: 296-23442-2-ND; Supplier 2: Digi-Key; Supplier Part Number 2: 296-23442-1-ND; Supplier 3: Digi-Key; Supplier Part Number 3: 296-23442-6-ND; Supplier 4: Mouser; Supplier Part Number 4: 595-UC2856QDWRQ1; Control Method: Current; Eco-Plan: Green (RoHS & no Sb/Br); SubFamily: PWM Controller; UVLO Thresholds On/Off(V): 7.7/7; Mounting Technology: Surface Mount; Code_JEDEC: MS-013-AA; ComponentLink1Description: Datasheet; ComponentLink1URL: http://www.ti.com/general/docs/lit/getliterature.tsp?genericPartNumber=UC2856-Q1&fileType=pdf
footprint DW16_N (SOIC, 16-Leads, Body 10.3x7.5mm, Pitch 1.27mm, IPC Medium Density)
footprint DW16_L (SOIC, 16-Leads, Body 10.3x7.5mm, Pitch 1.27mm, IPC High Density)
footprint DW16_M (SOIC, 16-Leads, Body 10.3x7.5mm, Pitch 1.27mm, IPC Low Density)
pins: 1 CL SS (in), 2 VREF (out), 3 CS- (in), 4 CS+ (in), 5 EA+ (in), 6 EA- (in), 7 COMP (out), 8 CT, 9 RT, 10 SYNC (io), 11 AOUT (out), 12 GND (power), 13 VC (power), 14 BOUT (out), 15 VIN (power), 16 SHUTDOWN (in)

## UC2861DW
designator U?
Resonant-Mode Power Supply Controller with Voltage Control, 50 % Duty Cycle, -40 to +85 degC, 16-pin SOIC (DW), Green (RoHS & no Sb/Br); PartNumber: UC2861DW; Manufacturer: Texas Instruments; Duty Cycle(Max)(%): 50; Frequency(Max)(kHz): 450; Rating: Catalog; Regulated Outputs(#): 2; SubFamily: PWM Controller; Topology: Full-Bridge, Half-Bridge, Push-Pull, Resonant; UVLO Thresholds On/Off(V): 16.5/10.5; DatasheetVersion: SLUS289B; PackageVersion: revG, Jan-2011; PackageReference: DW16; PackageDescription: 16-Pin Small Outline Integrated Circuit, 10.3 x 7.5 mm, Pitch 1.27 mm Pitch; Supplier 1: Digi-Key; Supplier Part Number 1: 296-14061-5-ND; Supplier 2: Newark; Supplier Part Number 2: 77C3038; Supplier 3: Mouser; Supplier Part Number 3: 595-UC2861DW; Control Method: Voltage; Eco-Plan: Green (RoHS & no Sb/Br); Mounting Technology: Surface Mount; Code_JEDEC: MS-013-AA; ComponentLink1Description: Datasheet; ComponentLink1URL: http://www.ti.com/general/docs/lit/getliterature.tsp?genericPartNumber=UC2861&fileType=pdf
footprint DW16_N (SOIC, 16-Leads, Body 10.3x7.5mm, Pitch 1.27mm, IPC Medium Density)
footprint DW16_L (SOIC, 16-Leads, Body 10.3x7.5mm, Pitch 1.27mm, IPC High Density)
footprint DW16_M (SOIC, 16-Leads, Body 10.3x7.5mm, Pitch 1.27mm, IPC Low Density)
pins: 1 5V (out), 2 NI (in), 3 INV (in), 4 E/A OUT (out), 5 SIG GND (power), 6 RANGE, 7 RMIN, 8 CVCO, 9 RC, 10 ZERO (in), 11 A OUT (out), 12 PWR GND (power), 13 VCC (power), 14 B OUT (out), 15 FAULT (in), 16 SOFT-REF (in)